# Altium schematic symbol library B0303S-1WR3.SchLib: 1 symbol
Pins are listed as number, name and electrical type; pins without a type are passive.

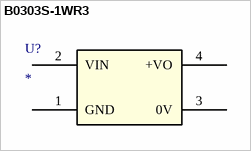
[diagram p0: symbol B0303S-1WR3]

## B0303S-1WR3
designator U?
footprint SIP4_B_S-1WR3_MNS
pins: 1 GND (power), 2 VIN (power), 3 0V, 4 +VO (power)